# EAGLE library part DS1881 (library DS1881)
Dual Non Volatile Audio Taper Digital Potentiometer Enthalten: Maxim DS1881E Maxim DS1881Z Erstellt: V. Wunsch Datum: 19/10/2007
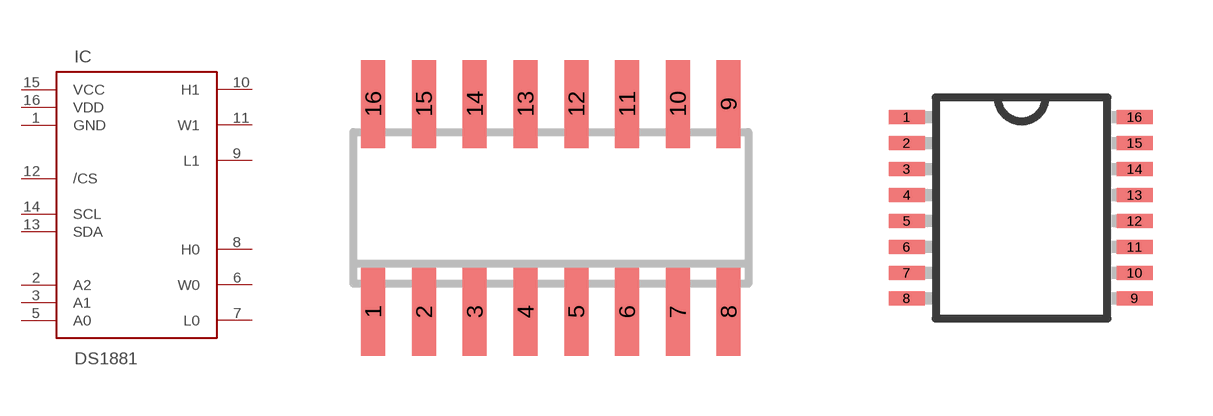
[diagram p0: symbol with the pads of SO16; footprints SO16, TSSOP16]

Designator prefix IC

## DS1881Z  [SO16]
1  GND  pwr
2  A2  in
3  A1  in
5  A0  in
6  W0
7  L0
8  H0
9  L1
10  H1
11  W1
12  /CS  in
13  SDA
14  SCL  in
15  VCC  pwr
16  VDD  pwr

## DS1881E  [TSSOP16]
Pads as for SO16

## Footprint SO16 (pad centres in mm)
SMALL OUTLINE INTEGRATED CIRCUIT body 3.9 mm/JEDEC MS-012AC
smd 0.6 x 2.2: 1 -4.445,-2.6; 2 -3.175,-2.6; 3 -1.905,-2.6; 4 -0.635,-2.6; 5 0.635,-2.6; 6 1.905,-2.6; 7 3.175,-2.6; 8 4.445,-2.6; 9 4.445,2.6; 10 3.175,2.6; 11 1.905,2.6; 12 0.635,2.6; 13 -0.635,2.6; 14 -1.905,2.6; 15 -3.175,2.6; 16 -4.445,2.6

## Footprint TSSOP16 (pad centres in mm)
14-Lead Thin Shrink Small Outline Package [TSSOP] Source: Analog Devices .. 780914713ADD8704_0.pdf
smd 0.9 x 0.35: 1 -2.875,1.95; 2 -2.875,1.3; 3 -2.875,0.65; 4 -2.875,0; 5 -2.875,-0.65; 6 -2.875,-1.3; 7 -2.875,-1.95; 8 -2.875,-2.585; 9 2.825,-2.585; 10 2.825,-1.95; 11 2.825,-1.3; 12 2.825,-0.65; 13 2.825,0; 14 2.825,0.65; 15 2.825,1.3; 16 2.825,1.95